# Altium schematic symbol library WE-CMB HC.SchLib: 6 symbols
Pins are listed as number, name and electrical type; pins without a type are passive.

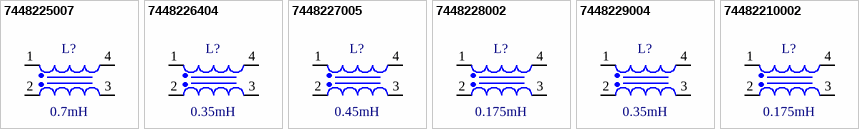
[diagram p0: symbols 7448225007 to 74482210002]

## 7448225007
designator L?, comment 0.7mH
WE-CMB HC Common Mode Power Line Choke, THT, Type S, 0.7mH, 5A, 15mΩ; Manufacturer Part Number: 7448225007; Manufacturer: Wurth Elektronik; Case/Size Code: Type S; Insulation Test Voltage (AC): 1500V; Material: MnZn; Rated Voltage (AC): 250V; Category: Common Mode Chokes; Match Code: WE-CMB HC; ComponentLink1Description: Website Link; ComponentLink1URL: https://www.we-online.com/redexpert/article/7448225007?ad; ComponentLink2Description: Datasheet Link; ComponentLink2URL: https://www.we-online.com/redexpert/spec/7448225007?ad; Mount: Through Hole; Min Operating Temperature: -40°C; Max Operating Temperature: 125°C; Packaging: Carton; Length: 18.5mm; Width: 14.5mm; Height: 22mm; DC Resistance Max: 15mΩ; Inductance: 0.7mH; Rated Current: 5A
footprint WE-CMB HC_Type S
simulation model S_7448225007_0.7m
pins: 1, 2, 3, 4

## 7448226404
designator L?, comment 0.35mH
WE-CMB HC Common Mode Power Line Choke, THT, Type S, 0.35mH, 6.4A, 10mΩ; Manufacturer Part Number: 7448226404; Manufacturer: Wurth Elektronik; Case/Size Code: Type S; Insulation Test Voltage (AC): 1500V; Material: MnZn; Rated Voltage (AC): 250V; Category: Common Mode Chokes; Match Code: WE-CMB HC; ComponentLink1Description: Website Link; ComponentLink1URL: https://www.we-online.com/redexpert/article/7448226404?ad; ComponentLink2Description: Datasheet Link; ComponentLink2URL: https://www.we-online.com/redexpert/spec/7448226404?ad; Mount: Through Hole; Min Operating Temperature: -40°C; Max Operating Temperature: 125°C; Packaging: Carton; Length: 18.5mm; Width: 14.5mm; Height: 22mm; DC Resistance Max: 10mΩ; Inductance: 0.35mH; Rated Current: 6.4A
footprint WE-CMB HC_Type S
simulation model S_7448226404_0.35m
pins: 1, 2, 3, 4

## 7448227005
designator L?, comment 0.45mH
WE-CMB HC Common Mode Power Line Choke, THT, Type S, 0.45mH, 6.5A, 10mΩ; Manufacturer Part Number: 7448227005; Manufacturer: Wurth Elektronik; Case/Size Code: Type S; Insulation Test Voltage (AC): 1500V; Material: MnZn; Rated Voltage (AC): 250V; Category: Common Mode Chokes; Match Code: WE-CMB HC; ComponentLink1Description: Website Link; ComponentLink1URL: https://www.we-online.com/redexpert/article/7448227005?ad; ComponentLink2Description: Datasheet Link; ComponentLink2URL: https://www.we-online.com/redexpert/spec/7448227005?ad; Mount: Through Hole; Min Operating Temperature: -40°C; Max Operating Temperature: 125°C; Packaging: Carton; Length: 18.5mm; Width: 14.5mm; Height: 22mm; DC Resistance Max: 10mΩ; Inductance: 0.45mH; Rated Current: 6.5A
footprint WE-CMB HC_Type S
simulation model S_7448227005_0.45m
pins: 1, 2, 3, 4

## 7448228002
designator L?, comment 0.175mH
WE-CMB HC Common Mode Power Line Choke, THT, Type S, 0.175mH, 8A, 6mΩ; Manufacturer Part Number: 7448228002; Manufacturer: Wurth Elektronik; Case/Size Code: Type S; Insulation Test Voltage (AC): 1500V; Material: MnZn; Rated Voltage (AC): 250V; Category: Common Mode Chokes; Match Code: WE-CMB HC; ComponentLink1Description: Website Link; ComponentLink1URL: https://www.we-online.com/redexpert/article/7448228002?ad; ComponentLink2Description: Datasheet Link; ComponentLink2URL: https://www.we-online.com/redexpert/spec/7448228002?ad; Mount: Through Hole; Min Operating Temperature: -40°C; Max Operating Temperature: 125°C; Packaging: Carton; Length: 18.5mm; Width: 14.5mm; Height: 22mm; DC Resistance Max: 6mΩ; Inductance: 0.175mH; Rated Current: 8A
footprint WE-CMB HC_Type S
simulation model S_7448228002_0.175m
pins: 1, 2, 3, 4

## 7448229004
designator L?, comment 0.35mH
WE-CMB HC Common Mode Power Line Choke, THT, Type S, 0.35mH, 8.5A, 7mΩ; Manufacturer Part Number: 7448229004; Manufacturer: Wurth Elektronik; Case/Size Code: Type S; Insulation Test Voltage (AC): 1500V; Material: MnZn; Rated Voltage (AC): 250V; Category: Common Mode Chokes; Match Code: WE-CMB HC; ComponentLink1Description: Website Link; ComponentLink1URL: https://www.we-online.com/redexpert/article/7448229004?ad; ComponentLink2Description: Datasheet Link; ComponentLink2URL: https://www.we-online.com/redexpert/spec/7448229004?ad; Mount: Through Hole; Min Operating Temperature: -40°C; Max Operating Temperature: 125°C; Packaging: Carton; Length: 18.5mm; Width: 14.5mm; Height: 22mm; DC Resistance Max: 7mΩ; Inductance: 0.35mH; Rated Current: 8.5A
footprint WE-CMB HC_Type S
simulation model S_7448229004_0.35m
pins: 1, 2, 3, 4

## 74482210002
designator L?, comment 0.175mH
WE-CMB HC Common Mode Power Line Choke, THT, Type S, 0.175mH, 10A, 4mΩ; Manufacturer Part Number: 74482210002; Manufacturer: Wurth Elektronik; Case/Size Code: Type S; Insulation Test Voltage (AC): 1500V; Material: MnZn; Rated Voltage (AC): 250V; Category: Common Mode Chokes; Match Code: WE-CMB HC; ComponentLink1Description: Website Link; ComponentLink1URL: https://www.we-online.com/redexpert/article/74482210002?ad; ComponentLink2Description: Datasheet Link; ComponentLink2URL: https://www.we-online.com/redexpert/spec/74482210002?ad; Mount: Through Hole; Min Operating Temperature: -40°C; Max Operating Temperature: 125°C; Packaging: Carton; Length: 18.5mm; Width: 14.5mm; Height: 22mm; DC Resistance Max: 4mΩ; Inductance: 0.175mH; Rated Current: 10A
footprint WE-CMB HC_Type S
simulation model S_74482210002_0.175m
pins: 1, 2, 3, 4